# Altium schematic symbol library Resistors Ceramic SMD 2012.SchLib: 47 symbols
Pins are listed as number, name and electrical type; pins without a type are passive.

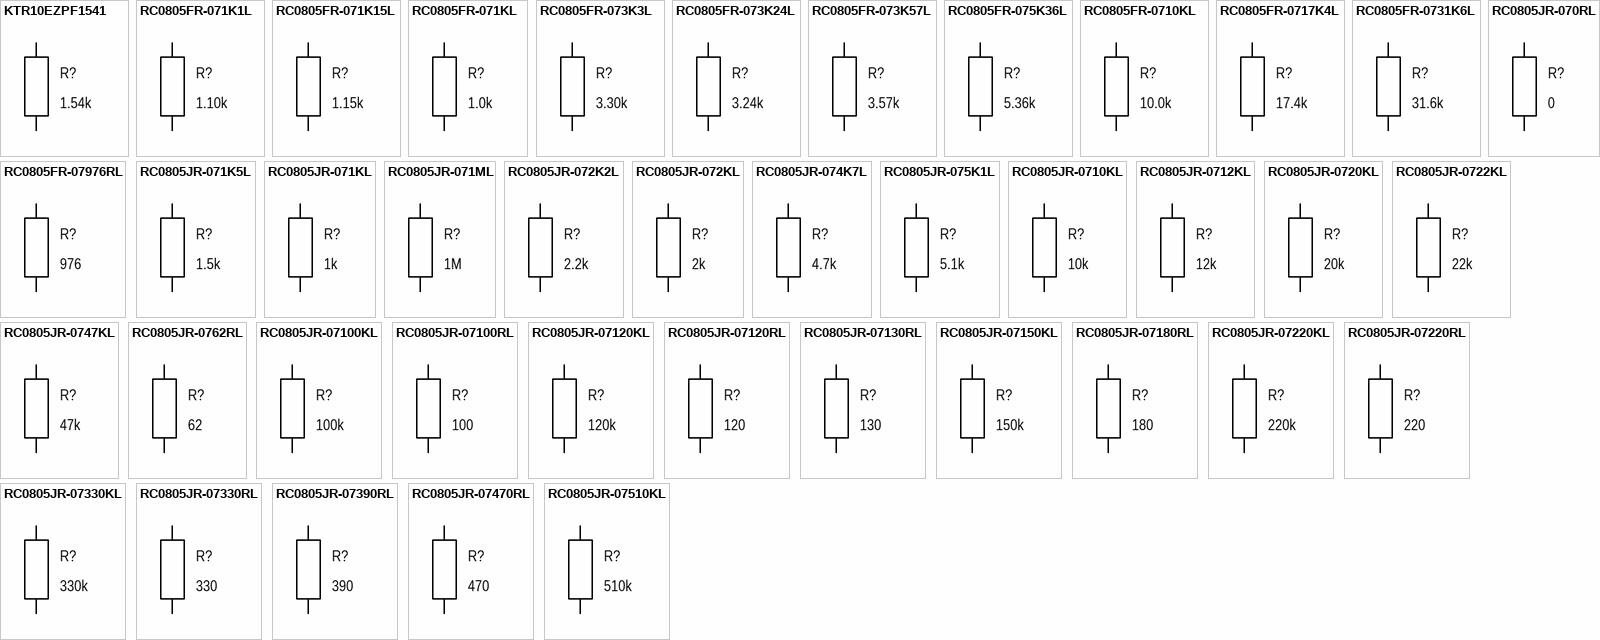
[diagram p0: symbols KTR10EZPF1541 to RC0805JR-07510KL]

## KTR10EZPF1541
designator R?, comment 1.54k
RESC 1.54k 0805(2012) 1%; Manufacturer: Rohm; Part name: KTR10EZPF1541; Group: Discrete; Temperature coefficient: ±100ppm/°C; Power: 0.125W; Component: Resistor Ceramic; Tolerance: ±1%; Type: Thin film; Package: 0805 (2012); Resistance: 1.54k; Dimension: 2.00mm x 1.25mm; Height: 0.65mm; Operating temperature: -55°C +155°C; Mounting type: Surface mount
footprint RESC2012N (Chip Resistor, Body 2.0x1.2mm, IPC High Density)
footprint RESC2012M (Chip Resistor, Body 2.0x1.2mm, IPC High Density)
footprint RESC2012L (Chip Resistor, Body 2.0x1.2mm, IPC High Density)
pins: 1, 2

## RC0805FR-071K1L
designator R?, comment 1.10k
RESC 1.10k 0805(2012) 1%; Manufacturer: Yageo; Part name: RC0805FR-071K1L; Group: Discrete; Temperature coefficient: ±100ppm/°C; Power: 0.125W; Component: Resistor Ceramic; Tolerance: ±1%; Type: Thin film; Package: 0805 (2012); Resistance: 1.10k; Dimension: 2.00mm x 1.25mm; Height: 0.60mm; Operating temperature: -55°C +155°C; Mounting type: Surface mount
footprint RESC2012N (Chip Resistor, Body 2.0x1.2mm, IPC High Density)
footprint RESC2012M (Chip Resistor, Body 2.0x1.2mm, IPC High Density)
footprint RESC2012L (Chip Resistor, Body 2.0x1.2mm, IPC High Density)
pins: 1, 2

## RC0805FR-071K15L
designator R?, comment 1.15k
RESC 1.15k 0805(2012) 1%; Manufacturer: Yageo; Part name: RC0805FR-071K15L; Group: Discrete; Temperature coefficient: ±100ppm/°C; Power: 0.125W; Component: Resistor Ceramic; Tolerance: ±1%; Type: Thin film; Package: 0805 (2012); Resistance: 1.15k; Dimension: 2.00mm x 1.25mm; Height: 0.60mm; Operating temperature: -55°C +155°C; Mounting type: Surface mount
footprint RESC2012N (Chip Resistor, Body 2.0x1.2mm, IPC High Density)
footprint RESC2012M (Chip Resistor, Body 2.0x1.2mm, IPC High Density)
footprint RESC2012L (Chip Resistor, Body 2.0x1.2mm, IPC High Density)
pins: 1, 2

## RC0805FR-071KL
designator R?, comment 1.0k
RESC 1.0k 0805(2012) 1%; Manufacturer: Yageo; Part name: RC0805FR-071KL; Group: Discrete; Temperature coefficient: ±100ppm/°C; Power: 0.125W; Component: Resistor Ceramic; Tolerance: ±1%; Type: Thin film; Package: 0805 (2012); Resistance: 1.0k; Dimension: 2.00mm x 1.25mm; Height: 0.60mm; Operating temperature: -55°C +155°C; Mounting type: Surface mount
footprint RESC2012N (Chip Resistor, Body 2.0x1.2mm, IPC High Density)
footprint RESC2012M (Chip Resistor, Body 2.0x1.2mm, IPC High Density)
footprint RESC2012L (Chip Resistor, Body 2.0x1.2mm, IPC High Density)
pins: 1, 2

## RC0805FR-073K3L
designator R?, comment 3.30k
RESC 3.30k 0805(2012) 1%; Manufacturer: Yageo; Part name: RC0805FR-073K3L; Group: Discrete; Temperature coefficient: ±100ppm/°C; Power: 0.125W; Component: Resistor Ceramic; Tolerance: ±1%; Type: Thin film; Package: 0805 (2012); Resistance: 3.30k; Dimension: 2.00mm x 1.25mm; Height: 0.60mm; Operating temperature: -55°C +155°C; Mounting type: Surface mount
footprint RESC2012N (Chip Resistor, Body 2.0x1.2mm, IPC High Density)
footprint RESC2012M (Chip Resistor, Body 2.0x1.2mm, IPC High Density)
footprint RESC2012L (Chip Resistor, Body 2.0x1.2mm, IPC High Density)
pins: 1, 2

## RC0805FR-073K24L
designator R?, comment 3.24k
RESC 3.24k 0805(2012) 1%; Manufacturer: Yageo; Part name: RC0805FR-073K24L; Group: Discrete; Temperature coefficient: ±100ppm/°C; Power: 0.125W; Component: Resistor Ceramic; Tolerance: ±1%; Type: Thin film; Package: 0805 (2012); Resistance: 3.24k; Dimension: 2.00mm x 1.25mm; Height: 0.60mm; Operating temperature: -55°C +155°C; Mounting type: Surface mount
footprint RESC2012N (Chip Resistor, Body 2.0x1.2mm, IPC High Density)
footprint RESC2012M (Chip Resistor, Body 2.0x1.2mm, IPC High Density)
footprint RESC2012L (Chip Resistor, Body 2.0x1.2mm, IPC High Density)
pins: 1, 2

## RC0805FR-073K57L
designator R?, comment 3.57k
RESC 3.57k 0805(2012) 1%; Manufacturer: Yageo; Part name: RC0805FR-073K57L; Group: Discrete; Temperature coefficient: ±100ppm/°C; Power: 0.125W; Component: Resistor Ceramic; Tolerance: ±1%; Type: Thin film; Package: 0805 (2012); Resistance: 3.57k; Dimension: 2.00mm x 1.25mm; Height: 0.60mm; Operating temperature: -55°C +155°C; Mounting type: Surface mount
footprint RESC2012N (Chip Resistor, Body 2.0x1.2mm, IPC High Density)
footprint RESC2012M (Chip Resistor, Body 2.0x1.2mm, IPC High Density)
footprint RESC2012L (Chip Resistor, Body 2.0x1.2mm, IPC High Density)
pins: 1, 2

## RC0805FR-075K36L
designator R?, comment 5.36k
RESC 5.36k 0805(2012) 1%; Manufacturer: Yageo; Part name: RC0805FR-075K36L; Group: Discrete; Temperature coefficient: ±100ppm/°C; Power: 0.125W; Component: Resistor Ceramic; Tolerance: ±1%; Type: Thin film; Package: 0805 (2012); Resistance: 5.36k; Dimension: 2.00mm x 1.25mm; Height: 0.60mm; Operating temperature: -55°C +155°C; Mounting type: Surface mount
footprint RESC2012N (Chip Resistor, Body 2.0x1.2mm, IPC High Density)
footprint RESC2012M (Chip Resistor, Body 2.0x1.2mm, IPC High Density)
footprint RESC2012L (Chip Resistor, Body 2.0x1.2mm, IPC High Density)
pins: 1, 2

## RC0805FR-0710KL
designator R?, comment 10.0k
RESC 10.0k 0805(2012) 1%; Manufacturer: Yageo; Part name: RC0805FR-0710KL; Group: Discrete; Temperature coefficient: ±100ppm/°C; Power: 0.125W; Component: Resistor Ceramic; Tolerance: ±1%; Type: Thin film; Package: 0805 (2012); Resistance: 10.0k; Dimension: 2.00mm x 1.25mm; Height: 0.60mm; Operating temperature: -55°C +155°C; Mounting type: Surface mount
footprint RESC2012N (Chip Resistor, Body 2.0x1.2mm, IPC High Density)
footprint RESC2012M (Chip Resistor, Body 2.0x1.2mm, IPC High Density)
footprint RESC2012L (Chip Resistor, Body 2.0x1.2mm, IPC High Density)
pins: 1, 2

## RC0805FR-0717K4L
designator R?, comment 17.4k
RESC 17.4k 0805(2012) 1%; Manufacturer: Yageo; Part name: RC0805FR-0717K4L; Group: Discrete; Temperature coefficient: ±100ppm/°C; Power: 0.125W; Component: Resistor Ceramic; Tolerance: ±1%; Type: Thin film; Package: 0805 (2012); Resistance: 17.4k; Dimension: 2.00mm x 1.25mm; Height: 0.60mm; Operating temperature: -55°C +155°C; Mounting type: Surface mount
footprint RESC2012N (Chip Resistor, Body 2.0x1.2mm, IPC High Density)
footprint RESC2012M (Chip Resistor, Body 2.0x1.2mm, IPC High Density)
footprint RESC2012L (Chip Resistor, Body 2.0x1.2mm, IPC High Density)
pins: 1, 2

## RC0805FR-0731K6L
designator R?, comment 31.6k
RESC 31.6k 0805(2012) 1%; Manufacturer: Yageo; Part name: RC0805FR-0731K6L; Group: Discrete; Temperature coefficient: ±100ppm/°C; Power: 0.125W; Component: Resistor Ceramic; Tolerance: ±1%; Type: Thin film; Package: 0805 (2012); Resistance: 31.6k; Dimension: 2.00mm x 1.25mm; Height: 0.60mm; Operating temperature: -55°C +155°C; Mounting type: Surface mount
footprint RESC2012N (Chip Resistor, Body 2.0x1.2mm, IPC High Density)
footprint RESC2012M (Chip Resistor, Body 2.0x1.2mm, IPC High Density)
footprint RESC2012L (Chip Resistor, Body 2.0x1.2mm, IPC High Density)
pins: 1, 2

## RC0805FR-07976RL
designator R?, comment 976
RESC 976 0805(2012) 1%; Manufacturer: Yageo; Part name: RC0805FR-07976RL; Group: Discrete; Temperature coefficient: ±100ppm/°C; Power: 0.125W; Component: Resistor Ceramic; Tolerance: ±1%; Type: Thin film; Package: 0805 (2012); Resistance: 976; Dimension: 2.00mm x 1.25mm; Height: 0.60mm; Operating temperature: -55°C +155°C; Mounting type: Surface mount
footprint RESC2012N (Chip Resistor, Body 2.0x1.2mm, IPC High Density)
footprint RESC2012M (Chip Resistor, Body 2.0x1.2mm, IPC High Density)
footprint RESC2012L (Chip Resistor, Body 2.0x1.2mm, IPC High Density)
pins: 1, 2

## RC0805JR-070RL
designator R?, comment 0
RESC 0 0805(2012); Manufacturer: Yageo; Part name: RC0805JR-070RL; Group: Discrete; Temperature coefficient: ±100ppm/°C; Tolerance: ±5%; Power: 0.125W; Component: Resistor Ceramic; Type: Thin film; Package: 0805 (2012); Resistance: 0; Dimension: 2.00mm x 1.25mm; Height: 0.60mm; Operating temperature: -55°C +155°C; Mounting type: Surface mount
footprint RESC2012N (Chip Resistor, Body 2.0x1.2mm, IPC High Density)
footprint RESC2012M (Chip Resistor, Body 2.0x1.2mm, IPC High Density)
footprint RESC2012L (Chip Resistor, Body 2.0x1.2mm, IPC High Density)
pins: 1, 2

## RC0805JR-071K5L
designator R?, comment 1.5k
RESC 1.5k 0805(2012); Manufacturer: Yageo; Part name: RC0805JR-071K5L; Group: Discrete; Temperature coefficient: ±100ppm/°C; Tolerance: ±5%; Power: 0.125W; Component: Resistor Ceramic; Type: Thin film; Package: 0805 (2012); Resistance: 1.5k; Dimension: 2.00mm x 1.25mm; Height: 0.60mm; Operating temperature: -55°C +155°C; Mounting type: Surface mount
footprint RESC2012N (Chip Resistor, Body 2.0x1.2mm, IPC High Density)
footprint RESC2012M (Chip Resistor, Body 2.0x1.2mm, IPC High Density)
footprint RESC2012L (Chip Resistor, Body 2.0x1.2mm, IPC High Density)
pins: 1, 2

## RC0805JR-071KL
designator R?, comment 1k
RESC 1k 0805(2012); Manufacturer: Yageo; Part name: RC0805JR-071KL; Group: Discrete; Temperature coefficient: ±100ppm/°C; Tolerance: ±5%; Power: 0.125W; Component: Resistor Ceramic; Type: Thin film; Package: 0805 (2012); Resistance: 1k; Dimension: 2.00mm x 1.25mm; Height: 0.60mm; Operating temperature: -55°C +155°C; Mounting type: Surface mount
footprint RESC2012N (Chip Resistor, Body 2.0x1.2mm, IPC High Density)
footprint RESC2012M (Chip Resistor, Body 2.0x1.2mm, IPC High Density)
footprint RESC2012L (Chip Resistor, Body 2.0x1.2mm, IPC High Density)
pins: 1, 2

## RC0805JR-071ML
designator R?, comment 1M
RESC 1M 0805(2012); Manufacturer: Yageo; Part name: RC0805JR-071ML; Group: Discrete; Temperature coefficient: ±100ppm/°C; Tolerance: ±5%; Power: 0.125W; Component: Resistor Ceramic; Type: Thin film; Package: 0805 (2012); Resistance: 1M; Dimension: 2.00mm x 1.25mm; Height: 0.60mm; Operating temperature: -55°C +155°C; Mounting type: Surface mount
footprint RESC2012N (Chip Resistor, Body 2.0x1.2mm, IPC High Density)
footprint RESC2012M (Chip Resistor, Body 2.0x1.2mm, IPC High Density)
footprint RESC2012L (Chip Resistor, Body 2.0x1.2mm, IPC High Density)
pins: 1, 2

## RC0805JR-072K2L
designator R?, comment 2.2k
RESC 2.2k 0805(2012); Manufacturer: Yageo; Part name: RC0805JR-072K2L; Group: Discrete; Temperature coefficient: ±100ppm/°C; Tolerance: ±5%; Power: 0.125W; Component: Resistor Ceramic; Type: Thin film; Package: 0805 (2012); Resistance: 2.2k; Dimension: 2.00mm x 1.25mm; Height: 0.60mm; Operating temperature: -55°C +155°C; Mounting type: Surface mount
footprint RESC2012N (Chip Resistor, Body 2.0x1.2mm, IPC High Density)
footprint RESC2012M (Chip Resistor, Body 2.0x1.2mm, IPC High Density)
footprint RESC2012L (Chip Resistor, Body 2.0x1.2mm, IPC High Density)
pins: 1, 2

## RC0805JR-072KL
designator R?, comment 2k
RESC 2k 0805(2012); Manufacturer: Yageo; Part name: RC0805JR-072KL; Group: Discrete; Temperature coefficient: ±100ppm/°C; Tolerance: ±5%; Power: 0.125W; Component: Resistor Ceramic; Type: Thin film; Package: 0805 (2012); Resistance: 2k; Dimension: 2.00mm x 1.25mm; Height: 0.60mm; Operating temperature: -55°C +155°C; Mounting type: Surface mount
footprint RESC2012N (Chip Resistor, Body 2.0x1.2mm, IPC High Density)
footprint RESC2012M (Chip Resistor, Body 2.0x1.2mm, IPC High Density)
footprint RESC2012L (Chip Resistor, Body 2.0x1.2mm, IPC High Density)
pins: 1, 2

## RC0805JR-074K7L
designator R?, comment 4.7k
RESC 4.7k 0805(2012); Manufacturer: Yageo; Part name: RC0805JR-074K7L; Group: Discrete; Temperature coefficient: ±100ppm/°C; Tolerance: ±5%; Power: 0.125W; Component: Resistor Ceramic; Type: Thin film; Package: 0805 (2012); Resistance: 4.7k; Dimension: 2.00mm x 1.25mm; Height: 0.60mm; Operating temperature: -55°C +155°C; Mounting type: Surface mount
footprint RESC2012N (Chip Resistor, Body 2.0x1.2mm, IPC High Density)
footprint RESC2012M (Chip Resistor, Body 2.0x1.2mm, IPC High Density)
footprint RESC2012L (Chip Resistor, Body 2.0x1.2mm, IPC High Density)
pins: 1, 2

## RC0805JR-075K1L
designator R?, comment 5.1k
RESC 5.1k 0805(2012); Manufacturer: Yageo; Part name: RC0805JR-075K1L; Group: Discrete; Temperature coefficient: ±100ppm/°C; Tolerance: ±5%; Power: 0.125W; Component: Resistor Ceramic; Type: Thin film; Package: 0805 (2012); Resistance: 5.1k; Dimension: 2.00mm x 1.25mm; Height: 0.60mm; Operating temperature: -55°C +155°C; Mounting type: Surface mount
footprint RESC2012N (Chip Resistor, Body 2.0x1.2mm, IPC High Density)
footprint RESC2012M (Chip Resistor, Body 2.0x1.2mm, IPC High Density)
footprint RESC2012L (Chip Resistor, Body 2.0x1.2mm, IPC High Density)
pins: 1, 2

## RC0805JR-0710KL
designator R?, comment 10k
RESC 10k 0805(2012); Manufacturer: Yageo; Part name: RC0805JR-0710KL; Group: Discrete; Temperature coefficient: ±100ppm/°C; Tolerance: ±5%; Power: 0.125W; Component: Resistor Ceramic; Type: Thin film; Package: 0805 (2012); Resistance: 10k; Dimension: 2.00mm x 1.25mm; Height: 0.60mm; Operating temperature: -55°C +155°C; Mounting type: Surface mount
footprint RESC2012N (Chip Resistor, Body 2.0x1.2mm, IPC High Density)
footprint RESC2012M (Chip Resistor, Body 2.0x1.2mm, IPC High Density)
footprint RESC2012L (Chip Resistor, Body 2.0x1.2mm, IPC High Density)
pins: 1, 2

## RC0805JR-0712KL
designator R?, comment 12k
RESC 12k 0805(2012); Manufacturer: Yageo; Part name: RC0805JR-0712KL; Group: Discrete; Temperature coefficient: ±100ppm/°C; Tolerance: ±5%; Power: 0.125W; Component: Resistor Ceramic; Type: Thin film; Package: 0805 (2012); Resistance: 12k; Dimension: 2.00mm x 1.25mm; Height: 0.60mm; Operating temperature: -55°C +155°C; Mounting type: Surface mount
footprint RESC2012N (Chip Resistor, Body 2.0x1.2mm, IPC High Density)
footprint RESC2012M (Chip Resistor, Body 2.0x1.2mm, IPC High Density)
footprint RESC2012L (Chip Resistor, Body 2.0x1.2mm, IPC High Density)
pins: 1, 2

## RC0805JR-0720KL
designator R?, comment 20k
RESC 20k 0805(2012); Manufacturer: Yageo; Part name: RC0805JR-0720KL; Group: Discrete; Temperature coefficient: ±100ppm/°C; Tolerance: ±5%; Power: 0.125W; Component: Resistor Ceramic; Type: Thin film; Package: 0805 (2012); Resistance: 20k; Dimension: 2.00mm x 1.25mm; Height: 0.60mm; Operating temperature: -55°C +155°C; Mounting type: Surface mount
footprint RESC2012N (Chip Resistor, Body 2.0x1.2mm, IPC High Density)
footprint RESC2012M (Chip Resistor, Body 2.0x1.2mm, IPC High Density)
footprint RESC2012L (Chip Resistor, Body 2.0x1.2mm, IPC High Density)
pins: 1, 2

## RC0805JR-0722KL
designator R?, comment 22k
RESC 22k 0805(2012); Manufacturer: Yageo; Part name: RC0805JR-0722KL; Group: Discrete; Temperature coefficient: ±100ppm/°C; Tolerance: ±5%; Power: 0.125W; Component: Resistor Ceramic; Type: Thin film; Package: 0805 (2012); Resistance: 22k; Dimension: 2.00mm x 1.25mm; Height: 0.60mm; Operating temperature: -55°C +155°C; Mounting type: Surface mount
footprint RESC2012N (Chip Resistor, Body 2.0x1.2mm, IPC High Density)
footprint RESC2012M (Chip Resistor, Body 2.0x1.2mm, IPC High Density)
footprint RESC2012L (Chip Resistor, Body 2.0x1.2mm, IPC High Density)
pins: 1, 2

## RC0805JR-0747KL
designator R?, comment 47k
RESC 47k 0805(2012); Manufacturer: Yageo; Part name: RC0805JR-0747KL; Group: Discrete; Temperature coefficient: ±100ppm/°C; Tolerance: ±5%; Power: 0.125W; Component: Resistor Ceramic; Type: Thin film; Package: 0805 (2012); Resistance: 47k; Dimension: 2.00mm x 1.25mm; Height: 0.60mm; Operating temperature: -55°C +155°C; Mounting type: Surface mount
footprint RESC2012N (Chip Resistor, Body 2.0x1.2mm, IPC High Density)
footprint RESC2012M (Chip Resistor, Body 2.0x1.2mm, IPC High Density)
footprint RESC2012L (Chip Resistor, Body 2.0x1.2mm, IPC High Density)
pins: 1, 2

## RC0805JR-0762RL
designator R?, comment 62
RESC 62 0805(2012); Manufacturer: Yageo; Part name: RC0805JR-0762RL; Group: Discrete; Temperature coefficient: ±100ppm/°C; Tolerance: ±5%; Power: 0.125W; Component: Resistor Ceramic; Type: Thin film; Package: 0805 (2012); Resistance: 62; Dimension: 2.00mm x 1.25mm; Height: 0.60mm; Operating temperature: -55°C +155°C; Mounting type: Surface mount
footprint RESC2012N (Chip Resistor, Body 2.0x1.2mm, IPC High Density)
footprint RESC2012M (Chip Resistor, Body 2.0x1.2mm, IPC High Density)
footprint RESC2012L (Chip Resistor, Body 2.0x1.2mm, IPC High Density)
pins: 1, 2

## RC0805JR-07100KL
designator R?, comment 100k
RESC 100k 0805(2012); Manufacturer: Yageo; Part name: RC0805JR-07100KL; Group: Discrete; Temperature coefficient: ±100ppm/°C; Tolerance: ±5%; Power: 0.125W; Component: Resistor Ceramic; Type: Thin film; Package: 0805 (2012); Resistance: 100k; Dimension: 2.00mm x 1.25mm; Height: 0.60mm; Operating temperature: -55°C +155°C; Mounting type: Surface mount
footprint RESC2012N (Chip Resistor, Body 2.0x1.2mm, IPC High Density)
footprint RESC2012M (Chip Resistor, Body 2.0x1.2mm, IPC High Density)
footprint RESC2012L (Chip Resistor, Body 2.0x1.2mm, IPC High Density)
pins: 1, 2

## RC0805JR-07100RL
designator R?, comment 100
RESC 100 0805(2012); Manufacturer: Yageo; Part name: RC0805JR-07100RL; Group: Discrete; Temperature coefficient: ±100ppm/°C; Tolerance: ±5%; Power: 0.125W; Component: Resistor Ceramic; Type: Thin film; Package: 0805 (2012); Resistance: 100; Dimension: 2.00mm x 1.25mm; Height: 0.60mm; Operating temperature: -55°C +155°C; Mounting type: Surface mount
footprint RESC2012N (Chip Resistor, Body 2.0x1.2mm, IPC High Density)
footprint RESC2012M (Chip Resistor, Body 2.0x1.2mm, IPC High Density)
footprint RESC2012L (Chip Resistor, Body 2.0x1.2mm, IPC High Density)
pins: 1, 2

## RC0805JR-07120KL
designator R?, comment 120k
RESC 120k 0805(2012); Manufacturer: Yageo; Part name: RC0805JR-07120KL; Group: Discrete; Temperature coefficient: ±100ppm/°C; Tolerance: ±5%; Power: 0.125W; Component: Resistor Ceramic; Type: Thin film; Package: 0805 (2012); Resistance: 120k; Dimension: 2.00mm x 1.25mm; Height: 0.60mm; Operating temperature: -55°C +155°C; Mounting type: Surface mount
footprint RESC2012N (Chip Resistor, Body 2.0x1.2mm, IPC High Density)
footprint RESC2012M (Chip Resistor, Body 2.0x1.2mm, IPC High Density)
footprint RESC2012L (Chip Resistor, Body 2.0x1.2mm, IPC High Density)
pins: 1, 2

## RC0805JR-07120RL
designator R?, comment 120
RESC 120 0805(2012); Manufacturer: Yageo; Part name: RC0805JR-07120RL; Group: Discrete; Temperature coefficient: ±100ppm/°C; Tolerance: ±5%; Power: 0.125W; Component: Resistor Ceramic; Type: Thin film; Package: 0805 (2012); Resistance: 120; Dimension: 2.00mm x 1.25mm; Height: 0.60mm; Operating temperature: -55°C +155°C; Mounting type: Surface mount
footprint RESC2012N (Chip Resistor, Body 2.0x1.2mm, IPC High Density)
footprint RESC2012M (Chip Resistor, Body 2.0x1.2mm, IPC High Density)
footprint RESC2012L (Chip Resistor, Body 2.0x1.2mm, IPC High Density)
pins: 1, 2

## RC0805JR-07130RL
designator R?, comment 130
RESC 130 0805(2012); Manufacturer: Yageo; Part name: RC0805JR-07130RL; Group: Discrete; Temperature coefficient: ±100ppm/°C; Tolerance: ±5%; Power: 0.125W; Component: Resistor Ceramic; Type: Thin film; Package: 0805 (2012); Resistance: 130; Dimension: 2.00mm x 1.25mm; Height: 0.60mm; Operating temperature: -55°C +155°C; Mounting type: Surface mount
footprint RESC2012N (Chip Resistor, Body 2.0x1.2mm, IPC High Density)
footprint RESC2012M (Chip Resistor, Body 2.0x1.2mm, IPC High Density)
footprint RESC2012L (Chip Resistor, Body 2.0x1.2mm, IPC High Density)
pins: 1, 2

## RC0805JR-07150KL
designator R?, comment 150k
RESC 150k 0805(2012); Manufacturer: Yageo; Part name: RC0805JR-07150KL; Group: Discrete; Temperature coefficient: ±100ppm/°C; Tolerance: ±5%; Power: 0.125W; Component: Resistor Ceramic; Type: Thin film; Package: 0805 (2012); Resistance: 150k; Dimension: 2.00mm x 1.25mm; Height: 0.60mm; Operating temperature: -55°C +155°C; Mounting type: Surface mount
footprint RESC2012N (Chip Resistor, Body 2.0x1.2mm, IPC High Density)
footprint RESC2012M (Chip Resistor, Body 2.0x1.2mm, IPC High Density)
footprint RESC2012L (Chip Resistor, Body 2.0x1.2mm, IPC High Density)
pins: 1, 2

## RC0805JR-07180RL
designator R?, comment 180
RESC 180 0805(2012); Manufacturer: Yageo; Part name: RC0805JR-07180RL; Group: Discrete; Temperature coefficient: ±100ppm/°C; Tolerance: ±5%; Power: 0.125W; Component: Resistor Ceramic; Type: Thin film; Package: 0805 (2012); Resistance: 180; Dimension: 2.00mm x 1.25mm; Height: 0.60mm; Operating temperature: -55°C +155°C; Mounting type: Surface mount
footprint RESC2012N (Chip Resistor, Body 2.0x1.2mm, IPC High Density)
footprint RESC2012M (Chip Resistor, Body 2.0x1.2mm, IPC High Density)
footprint RESC2012L (Chip Resistor, Body 2.0x1.2mm, IPC High Density)
pins: 1, 2

## RC0805JR-07220KL
designator R?, comment 220k
RESC 220k 0805(2012); Manufacturer: Yageo; Part name: RC0805JR-07220KL; Group: Discrete; Temperature coefficient: ±100ppm/°C; Tolerance: ±5%; Power: 0.125W; Component: Resistor Ceramic; Type: Thin film; Package: 0805 (2012); Resistance: 220k; Dimension: 2.00mm x 1.25mm; Height: 0.60mm; Operating temperature: -55°C +155°C; Mounting type: Surface mount
footprint RESC2012N (Chip Resistor, Body 2.0x1.2mm, IPC High Density)
footprint RESC2012M (Chip Resistor, Body 2.0x1.2mm, IPC High Density)
footprint RESC2012L (Chip Resistor, Body 2.0x1.2mm, IPC High Density)
pins: 1, 2

## RC0805JR-07220RL
designator R?, comment 220
RESC 220 0805(2012); Manufacturer: Yageo; Part name: RC0805JR-07220RL; Group: Discrete; Temperature coefficient: ±100ppm/°C; Tolerance: ±5%; Power: 0.125W; Component: Resistor Ceramic; Type: Thin film; Package: 0805 (2012); Resistance: 220; Dimension: 2.00mm x 1.25mm; Height: 0.60mm; Operating temperature: -55°C +155°C; Mounting type: Surface mount
footprint RESC2012N (Chip Resistor, Body 2.0x1.2mm, IPC High Density)
footprint RESC2012M (Chip Resistor, Body 2.0x1.2mm, IPC High Density)
footprint RESC2012L (Chip Resistor, Body 2.0x1.2mm, IPC High Density)
pins: 1, 2

## RC0805JR-07330KL
designator R?, comment 330k
RESC 330k 0805(2012); Manufacturer: Yageo; Part name: RC0805JR-07330KL; Group: Discrete; Temperature coefficient: ±100ppm/°C; Tolerance: ±5%; Power: 0.125W; Component: Resistor Ceramic; Type: Thin film; Package: 0805 (2012); Resistance: 330k; Dimension: 2.00mm x 1.25mm; Height: 0.60mm; Operating temperature: -55°C +155°C; Mounting type: Surface mount
footprint RESC2012N (Chip Resistor, Body 2.0x1.2mm, IPC High Density)
footprint RESC2012M (Chip Resistor, Body 2.0x1.2mm, IPC High Density)
footprint RESC2012L (Chip Resistor, Body 2.0x1.2mm, IPC High Density)
pins: 1, 2

## RC0805JR-07330RL
designator R?, comment 330
RESC 330 0805(2012); Manufacturer: Yageo; Part name: RC0805JR-07330RL; Group: Discrete; Temperature coefficient: ±100ppm/°C; Tolerance: ±5%; Power: 0.125W; Component: Resistor Ceramic; Type: Thin film; Package: 0805 (2012); Resistance: 330; Dimension: 2.00mm x 1.25mm; Height: 0.60mm; Operating temperature: -55°C +155°C; Mounting type: Surface mount
footprint RESC2012N (Chip Resistor, Body 2.0x1.2mm, IPC High Density)
footprint RESC2012M (Chip Resistor, Body 2.0x1.2mm, IPC High Density)
footprint RESC2012L (Chip Resistor, Body 2.0x1.2mm, IPC High Density)
pins: 1, 2

## RC0805JR-07390RL
designator R?, comment 390
RESC 390 0805(2012); Manufacturer: Yageo; Part name: RC0805JR-07390RL; Group: Discrete; Temperature coefficient: ±100ppm/°C; Tolerance: ±5%; Power: 0.125W; Component: Resistor Ceramic; Type: Thin film; Package: 0805 (2012); Resistance: 390; Dimension: 2.00mm x 1.25mm; Height: 0.60mm; Operating temperature: -55°C +155°C; Mounting type: Surface mount
footprint RESC2012N (Chip Resistor, Body 2.0x1.2mm, IPC High Density)
footprint RESC2012M (Chip Resistor, Body 2.0x1.2mm, IPC High Density)
footprint RESC2012L (Chip Resistor, Body 2.0x1.2mm, IPC High Density)
pins: 1, 2

## RC0805JR-07470RL
designator R?, comment 470
RESC 470 0805(2012); Manufacturer: Yageo; Part name: RC0805JR-07470RL; Group: Discrete; Temperature coefficient: ±100ppm/°C; Tolerance: ±5%; Power: 0.125W; Component: Resistor Ceramic; Type: Thin film; Package: 0805 (2012); Resistance: 470; Dimension: 2.00mm x 1.25mm; Height: 0.60mm; Operating temperature: -55°C +155°C; Mounting type: Surface mount
footprint RESC2012N (Chip Resistor, Body 2.0x1.2mm, IPC High Density)
footprint RESC2012M (Chip Resistor, Body 2.0x1.2mm, IPC High Density)
footprint RESC2012L (Chip Resistor, Body 2.0x1.2mm, IPC High Density)
pins: 1, 2

## RC0805JR-07510KL
designator R?, comment 510k
RESC 510k 0805(2012); Manufacturer: Yageo; Part name: RC0805JR-07510KL; Group: Discrete; Temperature coefficient: ±100ppm/°C; Tolerance: ±5%; Power: 0.125W; Component: Resistor Ceramic; Type: Thin film; Package: 0805 (2012); Resistance: 510k; Dimension: 2.00mm x 1.25mm; Height: 0.60mm; Operating temperature: -55°C +155°C; Mounting type: Surface mount
footprint RESC2012N (Chip Resistor, Body 2.0x1.2mm, IPC High Density)
footprint RESC2012M (Chip Resistor, Body 2.0x1.2mm, IPC High Density)
footprint RESC2012L (Chip Resistor, Body 2.0x1.2mm, IPC High Density)
pins: 1, 2

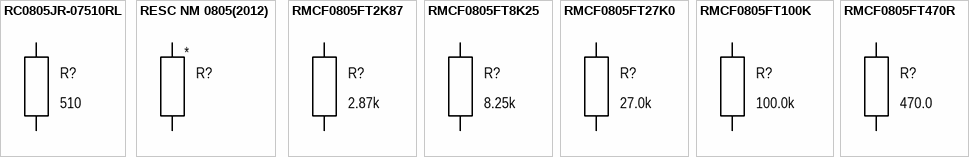
[diagram p1: symbols RC0805JR-07510RL to RMCF0805FT470R]

## RC0805JR-07510RL
designator R?, comment 510
RESC 510 0805(2012); Manufacturer: Yageo; Part name: RC0805JR-07510RL; Group: Discrete; Temperature coefficient: ±100ppm/°C; Tolerance: ±5%; Power: 0.125W; Component: Resistor Ceramic; Type: Thin film; Package: 0805 (2012); Resistance: 510; Dimension: 2.00mm x 1.25mm; Height: 0.60mm; Operating temperature: -55°C +155°C; Mounting type: Surface mount
footprint RESC2012N (Chip Resistor, Body 2.0x1.2mm, IPC High Density)
footprint RESC2012M (Chip Resistor, Body 2.0x1.2mm, IPC High Density)
footprint RESC2012L (Chip Resistor, Body 2.0x1.2mm, IPC High Density)
pins: 1, 2

## RESC NM 0805(2012)
designator R?  (no BOM)
RESC NM 0805(2012); Group: Discrete; Component: Resistor Ceramic; Package: 0805 (2012); Dimension: 2.00mm x 1.25mm; Height: 0.60mm; Mounting type: Surface mount (Not Mounted)
footprint RESC2012N_NM (Chip Resistor, Body 2.0x1.2mm, IPC High Density)
footprint RESC2012M_NM (Chip Resistor, Body 2.0x1.2mm, IPC High Density)
footprint RESC2012L_NM (Chip Resistor, Body 2.0x1.2mm, IPC High Density)
pins: 1, 2

## RMCF0805FT2K87
designator R?, comment 2.87k
RESC 2.87k 0805(2012) 1%; Manufacturer: Stackpole; Part name: RMCF0805FT2K87; Group: Discrete; Temperature coefficient: ±100ppm/°C; Power: 0.125W; Component: Resistor Ceramic; Tolerance: ±1%; Type: Thin film; Package: 0805 (2012); Resistance: 2.87k; Dimension: 2.00mm x 1.25mm; Height: 0.65mm; Operating temperature: -55°C +155°C; Mounting type: Surface mount
footprint RESC2012N (Chip Resistor, Body 2.0x1.2mm, IPC High Density)
footprint RESC2012M (Chip Resistor, Body 2.0x1.2mm, IPC High Density)
footprint RESC2012L (Chip Resistor, Body 2.0x1.2mm, IPC High Density)
pins: 1, 2

## RMCF0805FT8K25
designator R?, comment 8.25k
RESC 8.25k 0805(2012) 1%; Manufacturer: Stackpole; Part name: RMCF0805FT8K25; Group: Discrete; Temperature coefficient: ±100ppm/°C; Power: 0.125W; Component: Resistor Ceramic; Tolerance: ±1%; Type: Thin film; Package: 0805 (2012); Resistance: 8.25k; Dimension: 2.00mm x 1.25mm; Height: 0.65mm; Operating temperature: -55°C +155°C; Mounting type: Surface mount
footprint RESC2012N (Chip Resistor, Body 2.0x1.2mm, IPC High Density)
footprint RESC2012M (Chip Resistor, Body 2.0x1.2mm, IPC High Density)
footprint RESC2012L (Chip Resistor, Body 2.0x1.2mm, IPC High Density)
pins: 1, 2

## RMCF0805FT27K0
designator R?, comment 27.0k
RESC 27.0k 0805(2012) 1%; Manufacturer: Stackpole; Part name: RMCF0805FT27K0; Group: Discrete; Temperature coefficient: ±100ppm/°C; Power: 0.125W; Component: Resistor Ceramic; Tolerance: ±1%; Type: Thin film; Package: 0805 (2012); Resistance: 27.0k; Dimension: 2.00mm x 1.25mm; Height: 0.65mm; Operating temperature: -55°C +155°C; Mounting type: Surface mount
footprint RESC2012N (Chip Resistor, Body 2.0x1.2mm, IPC High Density)
footprint RESC2012M (Chip Resistor, Body 2.0x1.2mm, IPC High Density)
footprint RESC2012L (Chip Resistor, Body 2.0x1.2mm, IPC High Density)
pins: 1, 2

## RMCF0805FT100K
designator R?, comment 100.0k
RESC 100.0k 0805(2012) 1%; Manufacturer: Stackpole; Part name: RMCF0805FT100K; Group: Discrete; Temperature coefficient: ±100ppm/°C; Power: 0.125W; Component: Resistor Ceramic; Tolerance: ±1%; Type: Thin film; Package: 0805 (2012); Resistance: 100.0k; Dimension: 2.00mm x 1.25mm; Height: 0.65mm; Operating temperature: -55°C +155°C; Mounting type: Surface mount
footprint RESC2012N (Chip Resistor, Body 2.0x1.2mm, IPC High Density)
footprint RESC2012M (Chip Resistor, Body 2.0x1.2mm, IPC High Density)
footprint RESC2012L (Chip Resistor, Body 2.0x1.2mm, IPC High Density)
pins: 1, 2

## RMCF0805FT470R
designator R?, comment 470.0
RESC 470.0 0805(2012) 1%; Manufacturer: Stackpole; Part name: RMCF0805FT470R; Group: Discrete; Temperature coefficient: ±100ppm/°C; Power: 0.125W; Component: Resistor Ceramic; Tolerance: ±1%; Type: Thin film; Package: 0805 (2012); Resistance: 470.0; Dimension: 2.00mm x 1.25mm; Height: 0.65mm; Operating temperature: -55°C +155°C; Mounting type: Surface mount
footprint RESC2012N (Chip Resistor, Body 2.0x1.2mm, IPC High Density)
footprint RESC2012M (Chip Resistor, Body 2.0x1.2mm, IPC High Density)
footprint RESC2012L (Chip Resistor, Body 2.0x1.2mm, IPC High Density)
pins: 1, 2